# Altium footprint library ESP32C6WROOM1UN8.PcbLib: 1 footprints
Each footprint in its own frame and in the unit in brackets; x right, y up, seen from the top. Pads: shape width x height; smd on the part's side, far side on the other; paste and mask are expansions set on the pad; w line width, h text height; cw(c..) or ccw(c..) is an arc to the next point about the centre after c.
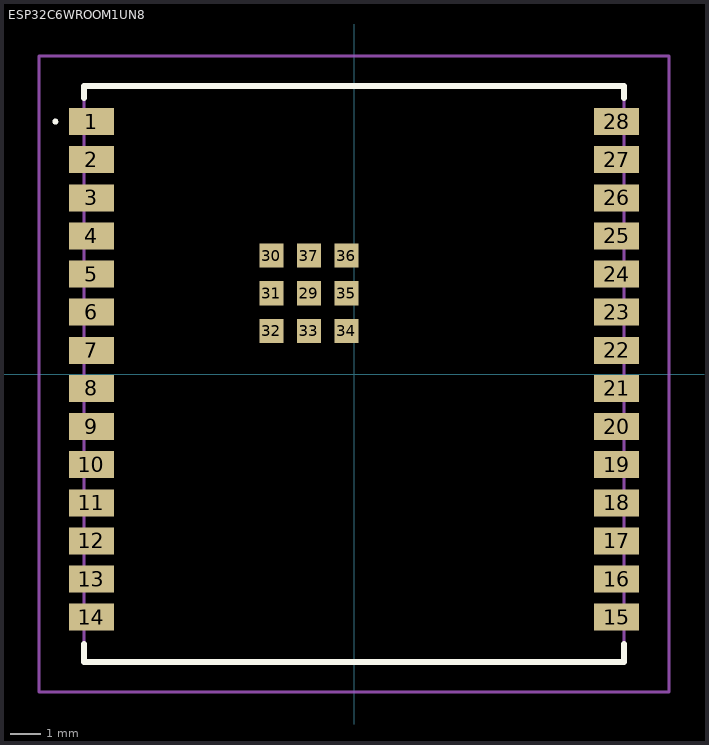
[diagram p0: the footprint, top view; thin cyan lines are the x and y axes]

## ESP32C6WROOM1UN8 [mm]
pads (37):
  rect 1.5x0.9 smd: 1(-8.75,8.41) 2(-8.75,7.14) 3(-8.75,5.87) 4(-8.75,4.6) 5(-8.75,3.33) 6(-8.75,2.06) 7(-8.75,0.79) 8(-8.75,-0.48) 9(-8.75,-1.75) 10(-8.75,-3.02) 11(-8.75,-4.29) 12(-8.75,-5.56) 13(-8.75,-6.83) 14(-8.75,-8.1) 15(8.75,-8.1) 16(8.75,-6.83) 17(8.75,-5.56) 18(8.75,-4.29) 19(8.75,-3.02) 20(8.75,-1.75) 21(8.75,-0.48) 22(8.75,0.79) 23(8.75,2.06) 24(8.75,3.33) 25(8.75,4.6) 26(8.75,5.87) 27(8.75,7.14) 28(8.75,8.41)
  rect 0.8x0.8 smd: 29(-1.505,2.69) 30(-2.755,3.94) 31(-2.755,2.69) 32(-2.755,1.44) 33(-1.505,1.44) 34(-0.255,1.44) 35(-0.255,2.69) 36(-0.255,3.94) 37(-1.505,3.94)
Top Overlay:
  lines w0.1: -10,8.41 -10,8.41 ; -10,8.41 ccw(c-9.95,8.41) -9.9,8.41 ; -10,8.41 cw(c-9.95,8.41) -9.9,8.41 ; -9.9,8.41 -9.9,8.41
  lines w0.2: -9,-9 -9,-9.6 9,-9.6 9,-9 ; -9,9.2 -9,9.6 9,9.6 9,9.2
Mechanical 15:
  lines w0.1: -9,-9.6 9,-9.6 9,9.6 -9,9.6 -9,-9.6
Mechanical 20:
  lines w0.1: -10.5,-10.6 10.5,-10.6 10.5,10.6 -10.5,10.6 -10.5,-10.6